# Altium footprint library QFN-56_L8.0-W8.0-P0.50-BL-EP6.1.PcbLib: 1 footprints
Each footprint in its own frame and in the unit in brackets; x right, y up, seen from the top. Pads: shape width x height; smd on the part's side, far side on the other; paste and mask are expansions set on the pad; w line width, h text height; cw(c..) or ccw(c..) is an arc to the next point about the centre after c.
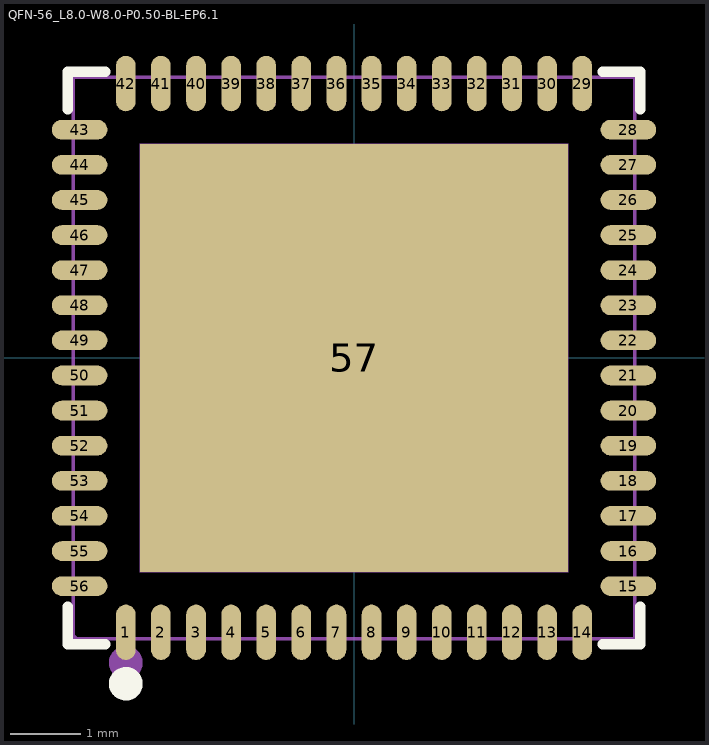
[diagram p0: the footprint, top view; thin cyan lines are the x and y axes]

## QFN-56_L8.0-W8.0-P0.50-BL-EP6.1 [mm]
pads (57):
  oval 0.28x0.79 smd paste-100 mask+0.05: 1(-3.25,-3.908) 2(-2.75,-3.908) 3(-2.25,-3.908) 4(-1.75,-3.908) 5(-1.25,-3.908) 6(-0.75,-3.908) 7(-0.25,-3.908) 8(0.25,-3.908) 9(0.75,-3.908) 10(1.25,-3.908) 11(1.75,-3.908) 12(2.25,-3.908) 13(2.75,-3.908) 14(3.25,-3.908) 29(3.25,3.908) 30(2.75,3.908) 31(2.25,3.908) 32(1.75,3.908) 33(1.25,3.908) 34(0.75,3.908) 35(0.25,3.908) 36(-0.25,3.908) 37(-0.75,3.908) 38(-1.25,3.908) 39(-1.75,3.908) 40(-2.25,3.908) 41(-2.75,3.908) 42(-3.25,3.908)
  oval 0.79x0.28 smd paste-100 mask+0.05: 15(3.908,-3.25) 16(3.908,-2.75) 17(3.908,-2.25) 18(3.908,-1.75) 19(3.908,-1.25) 20(3.908,-0.75) 21(3.908,-0.25) 22(3.908,0.25) 23(3.908,0.75) 24(3.908,1.25) 25(3.908,1.75) 26(3.908,2.25) 27(3.908,2.75) 28(3.908,3.25) 43(-3.908,3.25) 44(-3.908,2.75) 45(-3.908,2.25) 46(-3.908,1.75) 47(-3.908,1.25) 48(-3.908,0.75) 49(-3.908,0.25) 50(-3.908,-0.25) 51(-3.908,-0.75) 52(-3.908,-1.25) 53(-3.908,-1.75) 54(-3.908,-2.25) 55(-3.908,-2.75) 56(-3.908,-3.25)
  rect 6.1x6.1 smd paste-100 mask+0.05: 57(0,0)
Top Overlay:
  circle w0.24: c-3.25,-4.641 r0.12
  lines w0.152: -4.076,-3.542 -4.076,-4.076 -3.542,-4.076 ; -4.076,3.542 -4.076,4.076 -3.542,4.076 ; 3.542,-4.076 4.076,-4.076 4.076,-3.542 ; 3.542,4.076 4.076,4.076 4.076,3.542
Top Paste:
  drawing of 57 lines, arcs and shapes, not listed
Mechanical 6:
  circle w0.24: c-3.25,-4.341 r0.12
Mechanical 15:
  drawing of 62 lines, arcs and shapes, not listed
3D body "AFE4490RHAT.STEP": height 1.03, standoff 0.03, extent -3.127,-3.098 2.873,2.902